# Altium footprint library 常用元件封裝庫(pcb).PCBLIB: 67 footprints (part 5 of 5)
Each footprint in its own frame and in the unit in brackets; x right, y up, seen from the top. Pads: shape width x height; smd on the part's side, far side on the other; paste and mask are expansions set on the pad; w line width, h text height; cw(c..) or ccw(c..) is an arc to the next point about the centre after c.
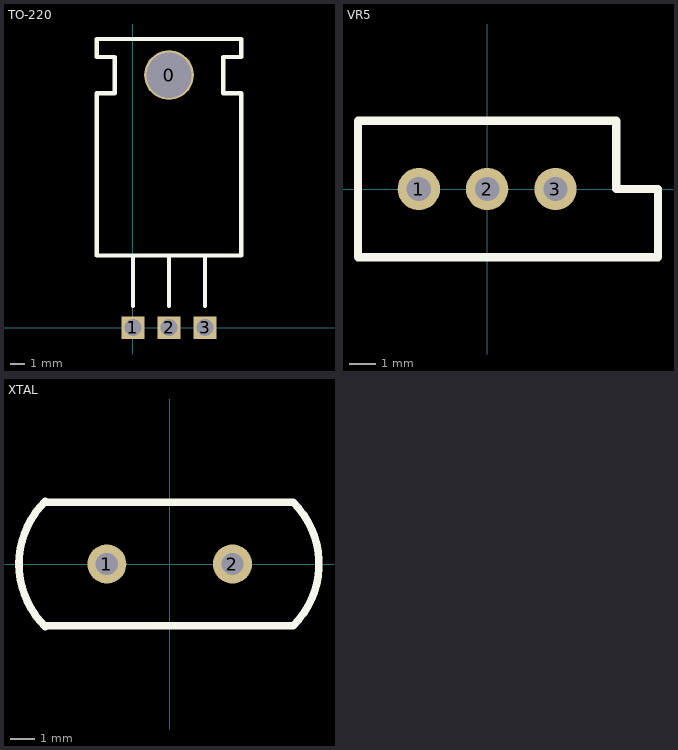
[diagram p4: the footprints below, top view; thin cyan lines are the x and y axes]

## TO-220 [mm]
pads (4):
  round 3.5 hole 3.2: 0(2.54,17.78)
  rect 1.6x1.6 hole 1.2: 1(0,0) 2(2.54,0) 3(5.08,0)
Top Overlay:
  lines w0.305: 0,1.524 0,5.08 ; 2.54,1.524 2.54,5.08 ; 5.08,1.524 5.08,5.08 ; -2.54,5.08 -2.54,16.51 -1.27,16.51 -1.27,19.05 -2.54,19.05 -2.54,20.32 7.62,20.32 7.62,19.05 6.35,19.05 6.35,16.51 7.62,16.51 7.62,5.08 -2.54,5.08

## VR5 [mil]
pads (3):
  round 62 hole 35.43: 1(-100,0) 2(0,0) 3(100,0)
Top Overlay:
  lines w12: -188.98,-100 -188.98,100 188.98,100 188.98,0 250,0 250,-100 -188.98,-100

## XTAL [mil]
pads (2):
  round 62 hole 35.43: 1(-100,0) 2(100,0)
Top Overlay:
  lines w12: -198.1,-99.7 cw(c-100,0) -198.1,99.7 ; -196.85,-98.42 196.85,-98.42 ; -196.85,98.42 196.85,98.42 ; 196.59,-98.16 ccw(c100,0) 196.59,98.16